# Altium integrated library UPM1E102MHD.IntLib: 1 symbol
Pins are listed as number, name and electrical type; pins without a type are passive.

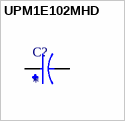
[diagram p0: symbol UPM1E102MHD]

## UPM1E102MHD
designator C?
Capacitor Aluminum Electrolytic Cap1000uF 25V 20% Radial 12.5X25 LS 5mm | Nichicon UPM1E102MHD; SnapEDA_Link: https://www.snapeda.com/parts/UPM1E102MHD/Nichicon/view-part/?ref=snap; Package: Radial Nichicon; Value: *; MF: Nichicon; MP: UPM1E102MHD; Check_prices: https://www.snapeda.com/parts/UPM1E102MHD/Nichicon/view-part/?ref=eda
footprint CAPPRD500W80D1250H2700
pins: N, P